# EAGLE library part HEADER_1X6 (library headers)
PIN HEADER
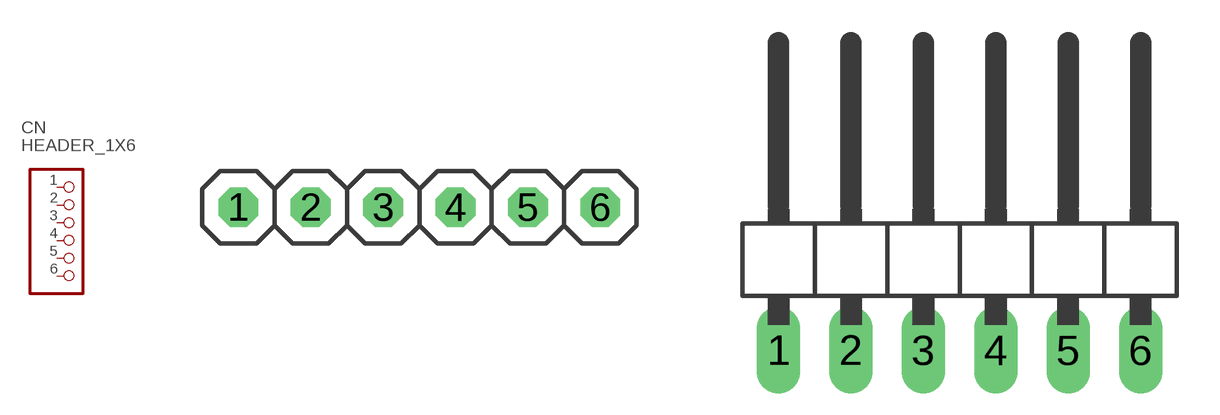
[diagram p25: symbol with the pads of 1X06; footprints 1X06, 1X06/90]

Designator prefix CN

## HEADER_1X6_2.54  [1X06]
1  1  pas
2  2  pas
3  3  pas
4  4  pas
5  5  pas
6  6  pas

## HEADER_1X6_2.54-90°  [1X06/90]
Pads as for 1X06

## HEADER_1X6_2.00  [1X06M]
Pads as for 1X06

## HEADER_1X6_2.54-SMD  [1X06SMD]
Pads as for 1X06

## HEADER_1X6_2.54-SMD-90°  [1X06SMD/90]
Pads as for 1X06

## Footprint 1X06 (pad centres in mm)
PIN HEADER - 2.54
drill 0.8 pad 1.4 octagon: 1 -6.35,0; 2 -3.81,0; 3 -1.27,0; 4 1.27,0; 5 3.81,0; 6 6.35,0

## Footprint 1X06/90 (pad centres in mm)
PIN HEADER - 2.54 90°
drill 1.016 long: 1 -6.35,-3.81; 2 -3.81,-3.81; 3 -1.27,-3.81; 4 1.27,-3.81; 5 3.81,-3.81; 6 6.35,-3.81

## Footprint 1X06M (pad centres in mm)
PIN HEADER - 2
drill 0.914 square: 1 -5,0
drill 0.914: 2 -3,0; 3 -1,0; 4 1,0; 5 3,0; 6 5,0

## Footprint 1X06SMD (pad centres in mm)
PIN HEADER - 2.54 SMD
smd 1.016 x 3.302: 1 -1.27,1.27; 2 1.27,-1.27; 3 3.81,1.27; 4 6.35,-1.27; 5 8.89,1.27; 6 11.43,-1.27

## Footprint 1X06SMD/90 (pad centres in mm)
PIN HEADER - 2.54 90°
smd 1.016 x 1.778: 1 -1.27,-5.08; 2 1.27,-5.08; 3 3.81,-5.08; 4 6.35,-5.08; 5 8.89,-5.08; 6 11.43,-5.08